# Altium footprint library SamacSys.PcbLib: 2 footprints
Each footprint in its own frame and in the unit in brackets; x right, y up, seen from the top. Pads: shape width x height; smd on the part's side, far side on the other; paste and mask are expansions set on the pad; w line width, h text height; cw(c..) or ccw(c..) is an arc to the next point about the centre after c.
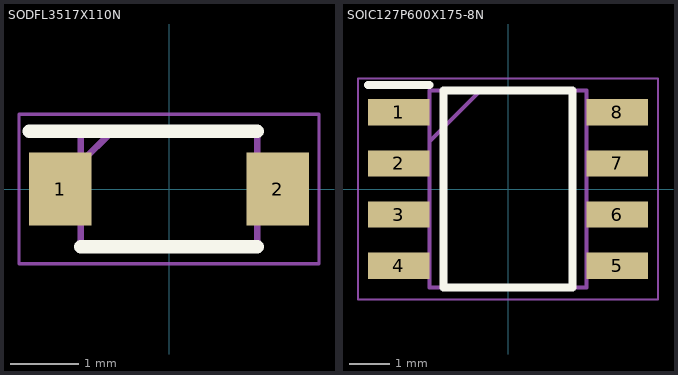
[diagram p0: the footprints below, top view; thin cyan lines are the x and y axes]

## SODFL3517X110N [mm]
pads (2):
  rect 0.92x1.08 smd: 1(-1.6,0) 2(1.6,0)
Top Overlay:
  lines w0.2: -2.06,0.85 1.3,0.85 ; -1.3,-0.85 1.3,-0.85
Mechanical 13:
  lines w0.1: -1.3,0.39 -0.84,0.85 ; -1.3,-0.85 1.3,-0.85 1.3,0.85 -1.3,0.85 -1.3,-0.85
Mechanical 15:
  lines w0.05: -2.21,-1.1 2.21,-1.1 2.21,1.1 -2.21,1.1 -2.21,-1.1
3D body "PMEG4030ER,115.stp": height 1.1, standoff 0, extent -1.75,-0.85 1.75,0.85

## SOIC127P600X175-8N [mm]
pads (8):
  rect 1.525x0.65 smd: 1(-2.712,1.905) 2(-2.712,0.635) 3(-2.712,-0.635) 4(-2.712,-1.905) 5(2.712,-1.905) 6(2.712,-0.635) 7(2.712,0.635) 8(2.712,1.905)
Top Overlay:
  lines w0.2: -3.475,2.58 -1.95,2.58 ; -1.6,-2.45 1.6,-2.45 1.6,2.45 -1.6,2.45 -1.6,-2.45
Mechanical 13:
  lines w0.1: -1.95,1.18 -0.68,2.45 ; -1.95,-2.45 1.95,-2.45 1.95,2.45 -1.95,2.45 -1.95,-2.45
Mechanical 15:
  lines w0.05: -3.725,-2.75 3.725,-2.75 3.725,2.75 -3.725,2.75 -3.725,-2.75
3D body "NE555DR.stp": height 1.75, standoff 0, extent -3,-2.45 3,2.45